# Altium footprint library 1705469.PcbLib: 1 footprints
Each footprint in its own frame and in the unit in brackets; x right, y up, seen from the top. Pads: shape width x height; smd on the part's side, far side on the other; paste and mask are expansions set on the pad; w line width, h text height; cw(c..) or ccw(c..) is an arc to the next point about the centre after c.
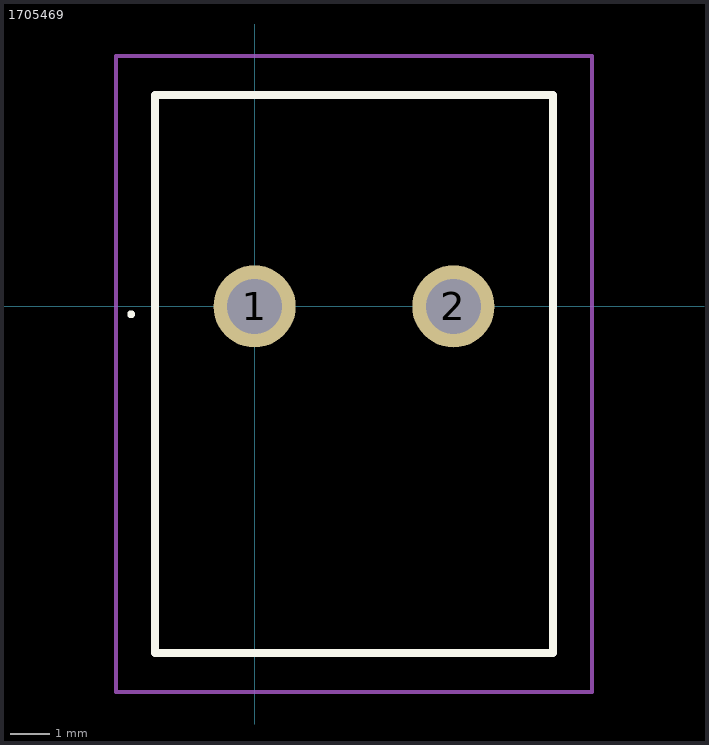
[diagram p0: the footprint, top view; thin cyan lines are the x and y axes]

## 1705469 [mm]
pads (2):
  round 2.1 hole 1.4: 1(0,0) 2(5.08,0)
Top Overlay:
  lines w0.1: -3.2,-0.2 -3.2,-0.2 ; -3.2,-0.2 ccw(c-3.15,-0.2) -3.1,-0.2 ; -3.2,-0.2 cw(c-3.15,-0.2) -3.1,-0.2 ; -3.1,-0.2 -3.1,-0.2
  lines w0.2: -2.54,-8.85 7.62,-8.85 7.62,5.4 -2.54,5.4 -2.54,-8.85
Mechanical 15:
  lines w0.1: -2.54,-8.85 7.62,-8.85 7.62,5.4 -2.54,5.4 -2.54,-8.85
Mechanical 20:
  lines w0.1: -3.54,-9.85 8.62,-9.85 ; -3.54,-9.85 -3.54,6.4 ; -3.54,-9.85 8.62,-9.85 ; -3.54,-9.85 -3.54,6.4 ; -3.54,6.4 8.62,6.4 ; -3.54,6.4 8.62,6.4 ; 8.62,-9.85 8.62,6.4 ; 8.62,-9.85 8.62,6.4